# Altium schematic symbol library Buzzer.SchLib: 2 symbols
Pins are listed as number, name and electrical type; pins without a type are passive.

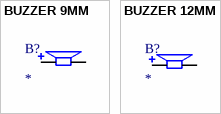
[diagram p0: symbols BUZZER 9MM to BUZZER 12MM]

## BUZZER 9MM
designator B?
3V3 ÇALIŞMA GERİLİMİ
footprint BUZZER 9MM
pins: +, -

## BUZZER 12MM
designator B?
footprint BUZZER 12MM
pins: +, -